# EAGLE library part LT1376 (library paparazzi)
1.5A switching regulator
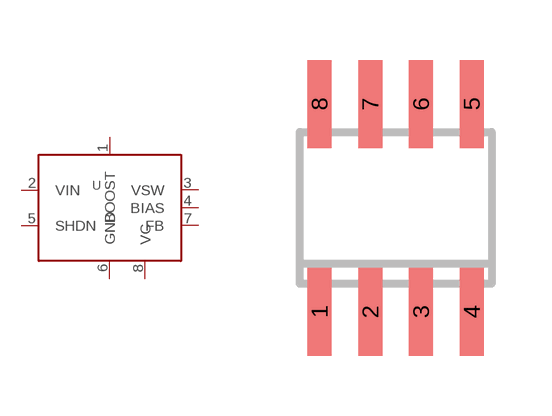
[diagram p7: symbol with the pads of SOIC8; footprint SOIC8]

Designator prefix -

## LT1376  [SOIC8]
1  BOOST
2  VIN
3  VSW
4  BIAS
5  SHDN
6  GND
7  FB
8  VC

## Footprint SOIC8 (pad centres in mm)
Small Outline IC
smd 0.6 x 2.2: 1 -1.905,-2.6; 2 -0.635,-2.6; 3 0.635,-2.6; 4 1.905,-2.6; 5 1.905,2.6; 6 0.635,2.6; 7 -0.635,2.6; 8 -1.905,2.6